# Altium footprint library Resistors_rus.PCBLIB: 80 footprints (part 5 of 5)
Each footprint in its own frame and in the unit in brackets; x right, y up, seen from the top. Pads: shape width x height; smd on the part's side, far side on the other; paste and mask are expansions set on the pad; w line width, h text height; cw(c..) or ccw(c..) is an arc to the next point about the centre after c.
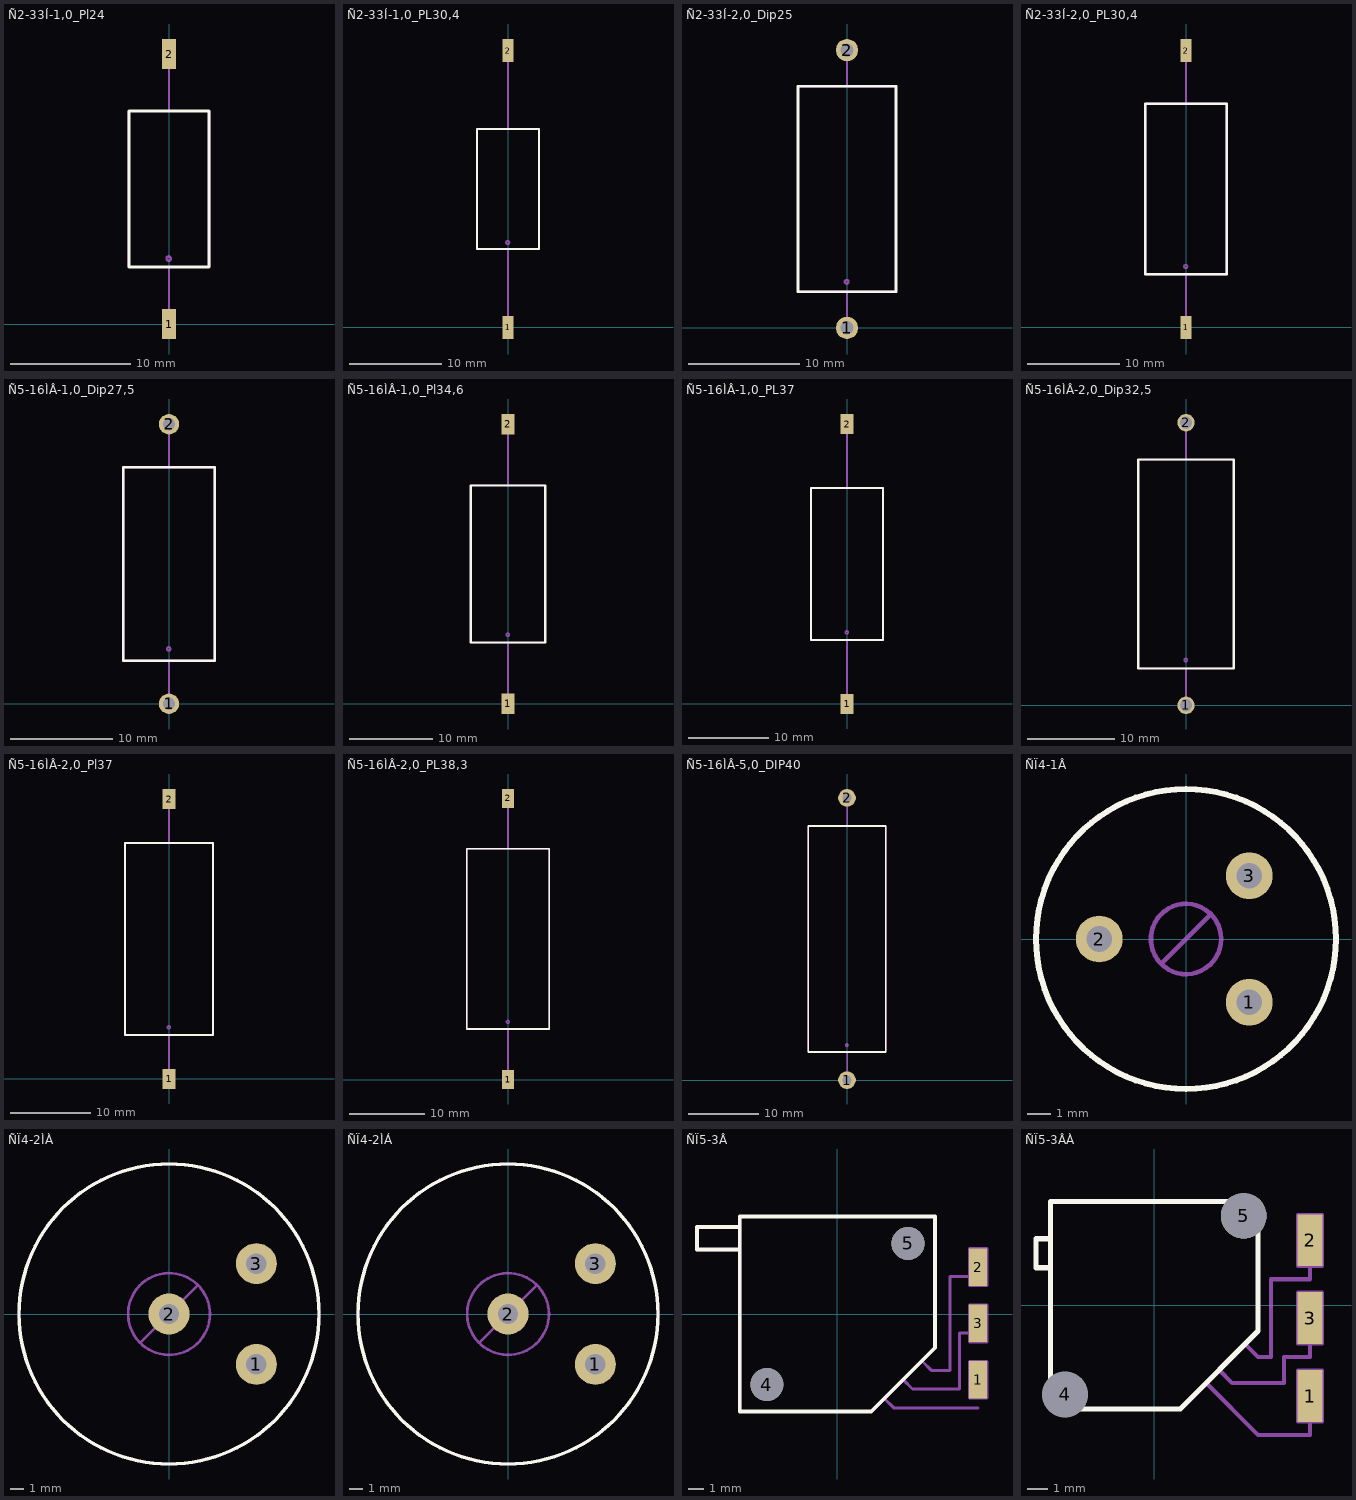
[diagram p4: the footprints below, top view; thin cyan lines are the x and y axes]

## Ñ2-33Í-1,0_Pl24 [mm]
pads (2):
  rect 1.2x2.5 smd: 1(0,0) 2(0,22.5)
Top Overlay:
  lines w0.25: -3.35,4.75 3.35,4.75 3.35,17.75 -3.35,17.75 -3.35,4.75
Mechanical 1:
  circle w0.2: c-0.03,5.45 r0.18
  lines w0.2: 0,-0.75 0,4.75 ; 0,17.75 0,23.25 ; -3.35,4.75 3.35,4.75 3.35,17.75 -3.35,17.75 -3.35,4.75
  text ".Designator" at 0.4,9.85 h1.5
3D body: height 6.7, standoff 0, extent -3.35,-0.75 3.35,23.25

## Ñ2-33Í-1,0_PL30,4 [mm]
pads (2):
  rect 1.2x2.5 smd: 1(0,0) 2(0,30)
Top Overlay:
  lines w0.25: -3.35,8.5 -3.35,21.5 3.35,21.5 3.35,8.5 -3.35,8.5
Mechanical 1:
  circle w0.2: c-0.03,9.2 r0.18
  lines w0.2: 0,-0.2 0,8.5 ; 0,21.5 0,30.2 ; -3.35,8.5 -3.35,21.5 3.35,21.5 3.35,8.5 -3.35,8.5
  text ".Designator" at 0.4,13.6 h1.5
3D body: height 6.7, standoff 0, extent -3.35,-0.2 3.35,30.2

## Ñ2-33Í-2,0_Dip25 [mm]
pads (2):
  round 2 hole 1.2: 1(0,0) 2(0,25)
Top Overlay:
  lines w0.25: -4.4,3.25 4.4,3.25 4.4,21.75 -4.4,21.75 -4.4,3.25
Mechanical 1:
  circle w0.2: c-0.03,4.15 r0.17
  lines w0.2: 0,0 0,3.25 ; 0,21.75 0,25 ; -4.4,3.25 4.4,3.25 4.4,21.75 -4.4,21.75 -4.4,3.25
  text ".Designator" at 0.15,11.1 h1.5
3D body: height 8.8, standoff -3, extent -4.4,-0.4 4.4,25.4

## Ñ2-33Í-2,0_PL30,4 [mm]
pads (2):
  rect 1.2x2.5 smd: 1(0,0) 2(0,30)
Top Overlay:
  lines w0.25: -4.4,5.75 -4.4,24.25 4.4,24.25 4.4,5.75 -4.4,5.75
Mechanical 1:
  circle w0.2: c-0.03,6.6 r0.18
  lines w0.2: 0,-0.2 0,5.75 ; 0,24.25 0,30.2 ; -4.4,5.75 -4.4,24.25 4.4,24.25 4.4,5.75 -4.4,5.75
  text ".Designator" at 0.4,14.1 h1.5
3D body: height 8.8, standoff 0, extent -4.4,-0.2 4.4,30.2

## Ñ5-16ÌÂ-1,0_Dip27,5 [mm]
pads (2):
  round 2 hole 1.2: 1(0,0) 2(0,27.5)
Top Overlay:
  lines w0.25: -4.5,4.25 -4.5,23.25 4.5,23.25 4.5,4.25 -4.5,4.25
Mechanical 1:
  circle w0.2: c-0.03,5.4 r0.17
  lines w0.2: 0,0 0,4.25 ; 0,23.25 0,27.5 ; -4.5,4.25 -4.5,23.25 4.5,23.25 4.5,4.25 -4.5,4.25
  text ".Designator" at 0.4,12.35 h1.5
3D body: height 9, standoff -3, extent -4.5,-0.5 4.5,28

## Ñ5-16ÌÂ-1,0_Pl34,6 [mm]
pads (2):
  rect 1.6x2.5 smd: 1(0,0) 2(0,33.75)
Top Overlay:
  lines w0.25: -4.5,7.375 4.5,7.375 4.5,26.375 -4.5,26.375 -4.5,7.375
Mechanical 1:
  circle w0.2: c-0.03,8.325 r0.18
  lines w0.2: 0,-0.425 0,7.375 ; 0,26.375 0,34.175 ; -4.5,7.375 4.5,7.375 4.5,26.375 -4.5,26.375 -4.5,7.375
  text ".Designator" at 0.4,16.1 h1.5
3D body: height 9, standoff 0, extent -4.5,-0.425 4.5,34.175

## Ñ5-16ÌÂ-1,0_PL37 [mm]
pads (2):
  rect 1.6x2.5 smd: 1(0,0) 2(0,35)
Top Overlay:
  lines w0.25: -4.5,8 -4.5,27 4.5,27 4.5,8 -4.5,8
Mechanical 1:
  circle w0.2: c-0.03,8.95 r0.18
  lines w0.2: 0,-1 0,8 ; 0,27 0,36 ; -4.5,8 -4.5,27 4.5,27 4.5,8 -4.5,8
  text ".Designator" at 0.4,16.6 h1.5
3D body: height 9, standoff 0, extent -4.5,-1 4.5,36

## Ñ5-16ÌÂ-2,0_Dip32,5 [mm]
pads (2):
  round 2 hole 1.4: 1(0,0) 2(0,32.5)
Top Overlay:
  lines w0.25: -5.5,4.25 -5.5,28.25 5.5,28.25 5.5,4.25 -5.5,4.25
Mechanical 1:
  circle w0.2: c-0.03,5.2 r0.18
  lines w0.2: 0,0 0,4.25 ; 0,28.25 0,32.5 ; -5.5,4.25 -5.5,28.25 5.5,28.25 5.5,4.25 -5.5,4.25
  text ".Designator" at 0.4,15.35 h1.5
3D body: height 11, standoff -3, extent -5.5,-0.4 5.5,32.9

## Ñ5-16ÌÂ-2,0_Pl37 [mm]
pads (2):
  rect 1.6x2.5 smd: 1(0,0) 2(0,35)
Top Overlay:
  lines w0.25: -5.5,5.5 5.5,5.5 5.5,29.5 -5.5,29.5 -5.5,5.5
Mechanical 1:
  circle w0.2: c-0.03,6.45 r0.18
  lines w0.2: 0,-1 0,5.5 ; 0,29.5 0,36 ; -5.5,5.5 5.5,5.5 5.5,29.5 -5.5,29.5 -5.5,5.5
  text ".Designator" at 0.4,16.85 h1.5
3D body: height 11, standoff 0, extent -5.5,-1 5.5,36

## Ñ5-16ÌÂ-2,0_PL38,3 [mm]
pads (2):
  rect 1.6x2.5 smd: 1(0,0) 2(0,37.465)
Top Overlay:
  lines w0.25: -5.5,6.75 5.5,6.75 5.5,30.75 -5.5,30.75 -5.5,6.75
Mechanical 1:
  circle w0.2: c-0.03,7.7 r0.18
  lines w0.2: 0,-0.4 0,6.75 ; 0,30.75 0,37.9 ; -5.5,6.75 5.5,6.75 5.5,30.75 -5.5,30.75 -5.5,6.75
  text ".Designator" at 0.4,17.85 h1.5
3D body: height 11, standoff 0, extent -5.5,-0.417 5.5,37.883

## Ñ5-16ÌÂ-5,0_DIP40 [mm]
pads (2):
  round 2.5 hole 1.3: 1(0,0) 2(0,40)
Top Overlay:
  lines w0.25: -5.5,4 5.5,4 5.5,36 -5.5,36 -5.5,4
Mechanical 1:
  circle w0.2: c-0.03,4.95 r0.18
  lines w0.2: 0,0 0,4 ; 0,36 0,40 ; -5.5,4 5.5,4 5.5,36 -5.5,36 -5.5,4
  text ".Designator" at 0.15,19.85 h1.5
3D body: height 11, standoff -3, extent -5.5,-0.4 5.5,40.4

## ÑÏ4-1Â [mm]
pads (3):
  round 2 hole 1.1: 1(2.7,-2.7) 2(-3.7,0) 3(2.7,2.7)
Top Overlay:
  circle w0.25: c0,0 r6.4
Mechanical 1:
  circle w0.2: c0,0 r1.5
  circle w0.2: c0,0 r6.4
  lines w0.2: -1,-1 1,1
  text ".Designator" at -1.65,4.35 h1.5
3D body: height 16, standoff -3, extent -6.489,-6.489 6.511,6.511

## ÑÏ4-2ÌÀ [mm]
pads (3):
  round 3 hole 1.5: 1(6.407,-3.698) 2(0,0) 3(6.407,3.698)
Top Overlay:
  circle w0.25: c0,0 r11
Mechanical 1:
  circle w0.2: c0,0 r11
  circle w0.2: c0,0 r3
  lines w0.2: -2.1,-2.1 2.1,2.1
  text ".Designator" at -1.9,6.1 h1.5
3D body: height 24, standoff -8, extent -10.993,-10.955 11.007,11.045

## ÑÏ4-2ÌÁ [mm]
pads (3):
  round 3 hole 1.5: 1(6.407,-3.698) 2(0,0) 3(6.407,3.698)
Top Overlay:
  circle w0.25: c0,0 r11
Mechanical 1:
  circle w0.2: c0,0 r11
  circle w0.2: c0,0 r3
  lines w0.2: -2.1,-2.1 2.1,2.1
  text ".Designator" at -1.65,5.85 h1.5
3D body: height 28.5, standoff -8, extent -11,-11 11,11

## ÑÏ5-3Â [mm]
pads (5):
  rect 1.2x2.5 smd: 1(9.375,-4.375) 2(9.375,3.125) 3(9.375,-0.625)
  round 2.2 hole 2.2 unplated: 4(-4.7,-4.7) 5(4.7,4.7)
Top Overlay:
  lines w0.25: -6.5,4.3 -9.35,4.3 -9.35,5.8 -6.5,5.8 ; -6.5,-6.5 2.25,-6.5 6.5,-2.25 6.5,6.5 -6.5,6.5 -6.5,-6.5
Mechanical 1:
  lines w0.2: -6.5,4.27 -9.35,4.27 -9.35,5.83 -6.5,5.83 ; 3.125,-5.625 3.75,-6.25 9.375,-6.25 ; 4.375,-4.375 5,-5 8.125,-5 8.125,-1.25 8.75,-1.25 ; 5.625,-3.125 6.25,-3.75 7.5,-3.75 7.5,2.5 8.75,2.5 ; 9.375,-5.45 9.375,-4.825 ; -6.5,-6.5 2.25,-6.5 6.5,-2.25 6.5,6.5 -6.5,6.5 -6.5,-6.5 ; 8.8,-5.6 9.95,-5.6 9.95,-3.15 8.8,-3.15 8.8,-5.6 ; 8.8,-1.85 8.8,0.6 9.95,0.6 9.95,-1.85 8.8,-1.85 ; 8.8,1.9 9.95,1.9 9.95,4.35 8.8,4.35 8.8,1.9
  text ".Designator" at -1.9,1.35 h1.5
3D body: height 5.9, standoff 0, extent -9.35,-6.502 9.7,6.498

## ÑÏ5-3ÂÀ [mm]
pads (5):
  rect 1.2x2.5 smd: 1(7.5,-4.375) 2(7.5,3.125) 3(7.5,-0.625)
  round 2.2 hole 2.2 unplated: 4(-4.3,-4.3) 5(4.3,4.3)
Top Overlay:
  lines w0.25: -5,1.8 -5.7,1.8 -5.7,3.2 -5,3.2 ; -5,-5 -5,5 5,5 5,-1.25 1.25,-5 -5,-5
Mechanical 1:
  lines w0.2: -5,1.8 -5.7,1.8 -5.7,3.2 -5,3.2 ; 2.5,-3.75 5,-6.25 7.5,-6.25 7.5,-5.625 ; 3.125,-3.125 3.75,-3.75 6.25,-3.75 6.25,-2.5 7.5,-2.5 7.5,-1.875 ; 4.375,-1.875 5,-2.5 5.625,-2.5 5.625,1.25 7.5,1.25 7.5,1.875 ; -5,-4 cw(c-4.3,-4.3) -4,-5 1.25,-5 5,-1.25 5,4 cw(c4.3,4.3) 4,5 -5,5 -5,-4 ; 6.925,-5.6 6.925,-3.15 8.075,-3.15 8.075,-5.6 6.925,-5.6 ; 6.925,-1.85 6.925,0.6 8.075,0.6 8.075,-1.85 6.925,-1.85 ; 6.925,1.9 6.925,4.35 8.075,4.35 8.075,1.9 6.925,1.9
  text ".Designator" at -2.15,1.35 h1.5
3D body: height 5.4, standoff 0, extent -6.4,-7.192 8.969,5